# EAGLE library part 713 (library pololu)
Pololu #713 TB6612FNG Dual Motor Driver
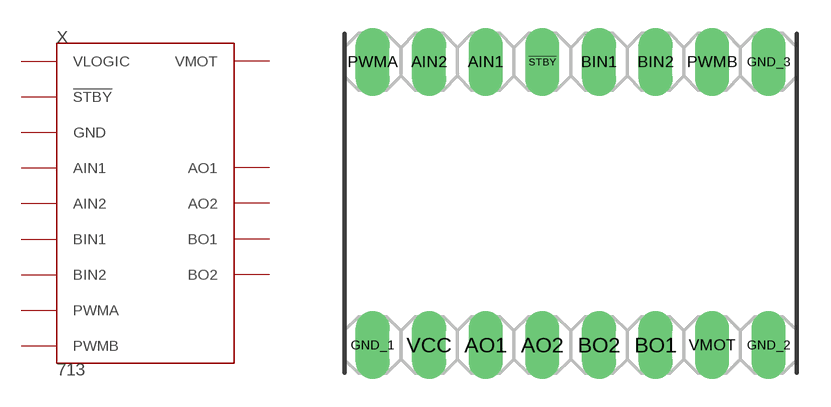
[diagram p1: symbol with the pads of 713; footprint 713]

Designator prefix X

## 713  [713]
!STBY!  !STBY!
AIN1  AIN1
AIN2  AIN2
AO1  AO1
AO2  AO2
BIN1  BIN1
BIN2  BIN2
BO1  BO1
BO2  BO2
GND_1  GND
GND_2  GND
GND_3  GND
PWMA  PWMA
PWMB  PWMB
VCC  VLOGIC
VMOT  VMOT

## Footprint 713 (pad centres in mm)
drill 1.016 long: !STBY! -1.27,6.35; AIN1 -3.81,6.35; AIN2 -6.35,6.35; AO1 -3.81,-6.35; AO2 -1.27,-6.35; BIN1 1.27,6.35; BIN2 3.81,6.35; BO1 3.81,-6.35; BO2 1.27,-6.35; GND_1 -8.89,-6.35; GND_2 8.89,-6.35; GND_3 8.89,6.35; PWMA -8.89,6.35; PWMB 6.35,6.35; VCC -6.35,-6.35; VMOT 6.35,-6.35